# Altium footprint library PCB - CAPACITOR - MLCC - MURATA CAP GCM31M 1206_3216.PCBLIB: 1 footprints
Each footprint in its own frame and in the unit in brackets; x right, y up, seen from the top. Pads: shape width x height; smd on the part's side, far side on the other; paste and mask are expansions set on the pad; w line width, h text height; cw(c..) or ccw(c..) is an arc to the next point about the centre after c.
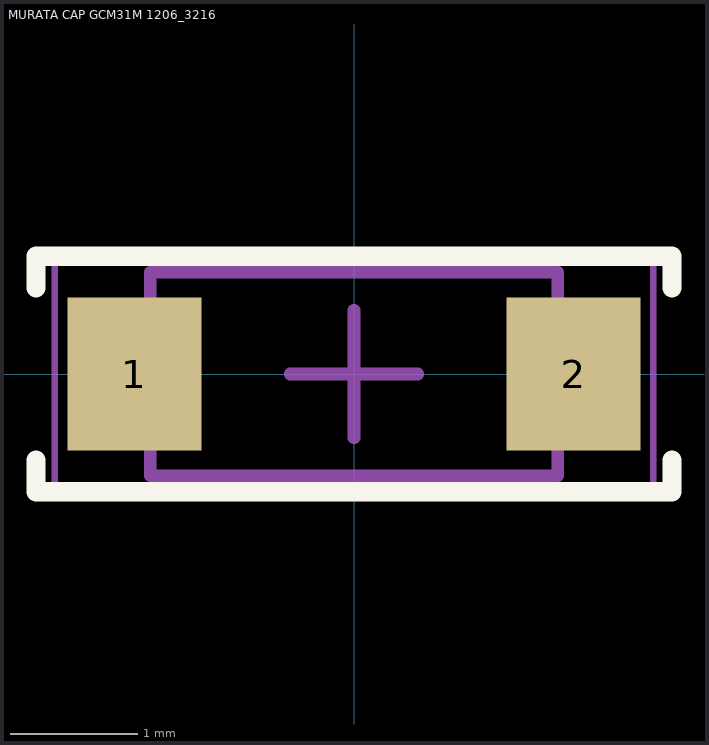
[diagram p0: the footprint, top view; thin cyan lines are the x and y axes]

## MURATA CAP GCM31M 1206_3216 [mm] "Chip Capacitor, 2-Leads, Body 3.25x1.60mm"
height 1.2
pads (2):
  rect 1.05x1.2 smd: 1(-1.725,0) 2(1.725,0)
Top Overlay:
  lines w0.15: -2.5,-0.675 -2.5,-0.925 2.5,-0.925 2.5,-0.675 ; -2.5,0.675 -2.5,0.925 2.5,0.925 2.5,0.675
Mechanical 13:
  lines w0.1: -1.6,-0.8 -1.6,0.8 1.6,0.8 1.6,-0.8 -1.6,-0.8
Mechanical 15:
  lines w0.05: -2.35,-0.9 2.35,-0.9 2.35,0.9 -2.35,0.9 -2.35,-0.9
  lines w0.1: -0.5,0 0.5,0 ; 0,-0.5 0,0.5
3D body "CAP 1206-1.2mm.STEP": height 1.2, standoff 0, extent -1.6,-0.8 1.6,0.8